# Altium schematic symbol library RC0603JR-07100KL.SchLib: 1 symbol
Pins are listed as number, name and electrical type; pins without a type are passive.

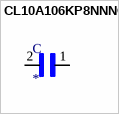
[diagram p0: symbol CL10A106KP8NNNC]

## CL10A106KP8NNNC
designator C
10ÂµF Â±10% 10V Ceramic Capacitor X5R 0603 _1608 Metric_; MP: CL10A106KP8NNNC; MF: Samsung; SnapEDA_Link: https://www.snapeda.com/parts/CL10A106KP8NNNC/Samsung/view-part/3598152/?ref=snap; Price: None; Package: 0603 Samsung; Availability: Unavailable; Value: *
pins: 1, 2